# Altium schematic symbol library ARM_DDR.SchLib: 1 symbol
Pins are listed as number, name and electrical type; pins without a type are passive.

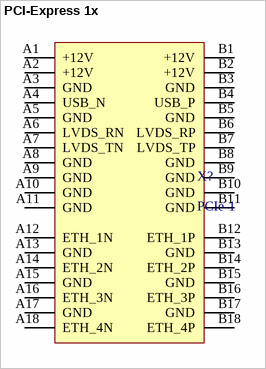
[diagram p0: symbol PCI-Express 1x]

## PCI-Express 1x
designator X?, comment PCIe-1
footprint PCI-Express 1x
pins: A1 +12V (power), A2 +12V (power), A3 GND (power), A4 USB_N (power), A5 GND (power), A6 LVDS_RN (power), A7 LVDS_TN (power), A8 GND (power), A9 GND (power), A10 GND (power), A11 GND (power), A12 ETH_1N (power), A13 GND (power), A14 ETH_2N (power), A15 GND (power), A16 ETH_3N (power), A17 GND (power), A18 ETH_4N (power), B1 +12V (power), B2 +12V (power), B3 GND (power), B4 USB_P (power), B5 GND (power), B6 LVDS_RP (power), B7 LVDS_TP (power), B8 GND (power), B9 GND (power), B10 GND (power), B11 GND (power), B12 ETH_1P (power), B13 GND (power), B14 ETH_2P (power), B15 GND (power), B16 ETH_3P (power), B17 GND (power), B18 ETH_4P (power)